# EAGLE library part CM8870 (library CM8870)
Dual In Line / Socket
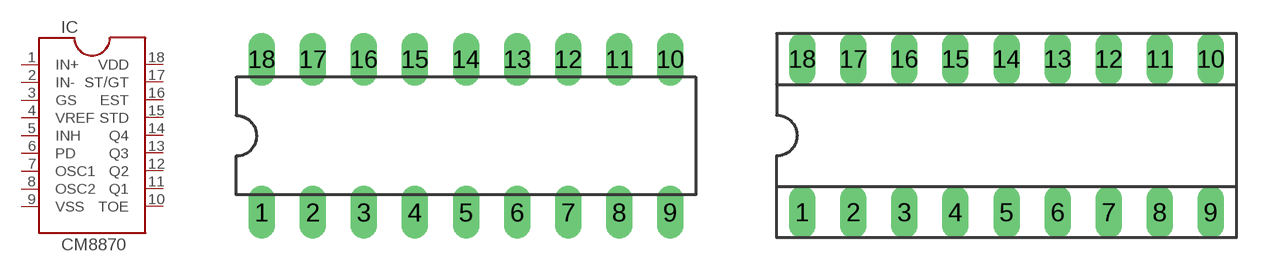
[diagram p0: symbol with the pads of DIL18; footprints DIL18, SOCKET-18]

Designator prefix IC

## CM8870  [DIL18]
1  IN+  pas
2  IN-  pas
3  GS  pas
4  VREF  pas
5  INH  pas
6  PD  pas
7  OSC1  pas
8  OSC2  pas
9  VSS  pas
10  TOE  pas
11  Q1  pas
12  Q2  pas
13  Q3  pas
14  Q4  pas
15  STD  pas
16  EST  pas
17  ST/GT  pas
18  VDD  pas

## CM8870S  [SOCKET-18]
Pads as for DIL18

## Footprint DIL18 (pad centres in mm)
Dual In Line Package
drill 0.813 long: 1 -10.16,-3.81; 2 -7.62,-3.81; 3 -5.08,-3.81; 4 -2.54,-3.81; 5 0,-3.81; 6 2.54,-3.81; 7 5.08,-3.81; 8 7.62,-3.81; 9 10.16,-3.81; 10 10.16,3.81; 11 7.62,3.81; 12 5.08,3.81; 13 2.54,3.81; 14 0,3.81; 15 -2.54,3.81; 16 -5.08,3.81; 17 -7.62,3.81; 18 -10.16,3.81

## Footprint SOCKET-18 (pad centres in mm)
Dual In Line Socket
drill 0.813 long: 1 -10.16,-3.81; 2 -7.62,-3.81; 3 -5.08,-3.81; 4 -2.54,-3.81; 5 0,-3.81; 6 2.54,-3.81; 7 5.08,-3.81; 8 7.62,-3.81; 9 10.16,-3.81; 10 10.16,3.81; 11 7.62,3.81; 12 5.08,3.81; 13 2.54,3.81; 14 0,3.81; 15 -2.54,3.81; 16 -5.08,3.81; 17 -7.62,3.81; 18 -10.16,3.81